# Altium schematic symbol library AVR PCB.SchLib: 9 symbols
Pins are listed as number, name and electrical type; pins without a type are passive.

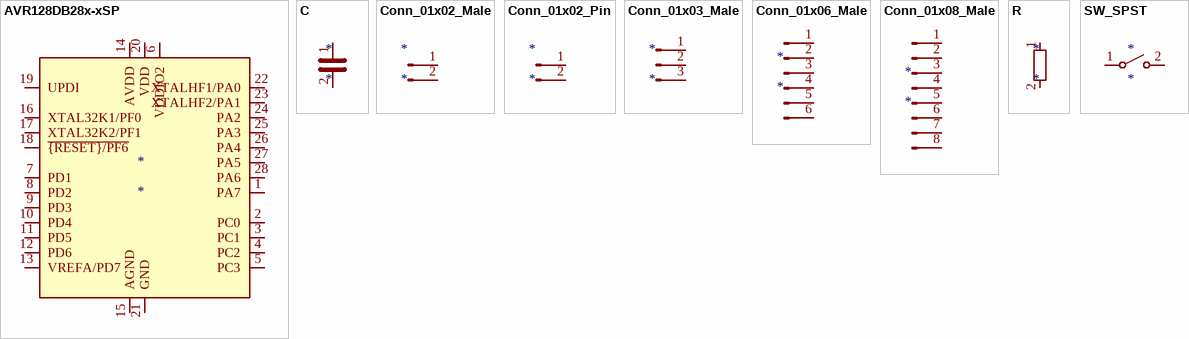
[diagram p0: symbols AVR128DB28x-xSP to SW_SPST]

## AVR128DB28x-xSP
designator *
pins: 1 PA7, 2 PC0, 3 PC1, 4 PC2, 5 PC3, 6 VDDIO2, 7 PD1, 8 PD2, 9 PD3, 10 PD4, 11 PD5, 12 PD6, 13 VREFA/PD7, 14 AVDD, 15 AGND, 16 XTAL32K1/PF0, 17 XTAL32K2/PF1, 18 ~{{RESET}/PF6}, 19 UPDI, 20 VDD, 21 GND, 22 XTALHF1/PA0, 23 XTALHF2/PA1, 24 PA2, 25 PA3, 26 PA4, 27 PA5, 28 PA6

## C
designator *
pins: 1, 2

## Conn_01x02_Male
designator *
pins: 1 Pin_1, 2 Pin_2

## Conn_01x02_Pin
designator *
pins: 1 Pin_1, 2 Pin_2

## Conn_01x03_Male
designator *
pins: 1 Pin_1, 2 Pin_2, 3 Pin_3

## Conn_01x06_Male
designator *
pins: 1 Pin_1, 2 Pin_2, 3 Pin_3, 4 Pin_4, 5 Pin_5, 6 Pin_6

## Conn_01x08_Male
designator *
pins: 1 Pin_1, 2 Pin_2, 3 Pin_3, 4 Pin_4, 5 Pin_5, 6 Pin_6, 7 Pin_7, 8 Pin_8

## R
designator *
pins: 1, 2

## SW_SPST
designator *
pins: 1 A, 2 B